# Altium schematic symbol library TPS7A4101.SchLib: 1 symbol
Pins are listed as number, name and electrical type; pins without a type are passive.

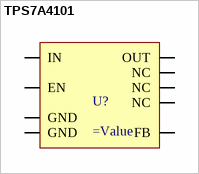
[diagram p0: symbol TPS7A4101]

## TPS7A4101
designator U?
pins: 1 OUT, 2 FB, 3 NC, 4 GND, 5 EN, 6 NC, 7 NC, 8 IN, 9 GND